# Altium footprint library PultRE_8C.PcbLib: 9 footprints
Each footprint in its own frame and in the unit in brackets; x right, y up, seen from the top. Pads: shape width x height; smd on the part's side, far side on the other; paste and mask are expansions set on the pad; w line width, h text height; cw(c..) or ccw(c..) is an arc to the next point about the centre after c.
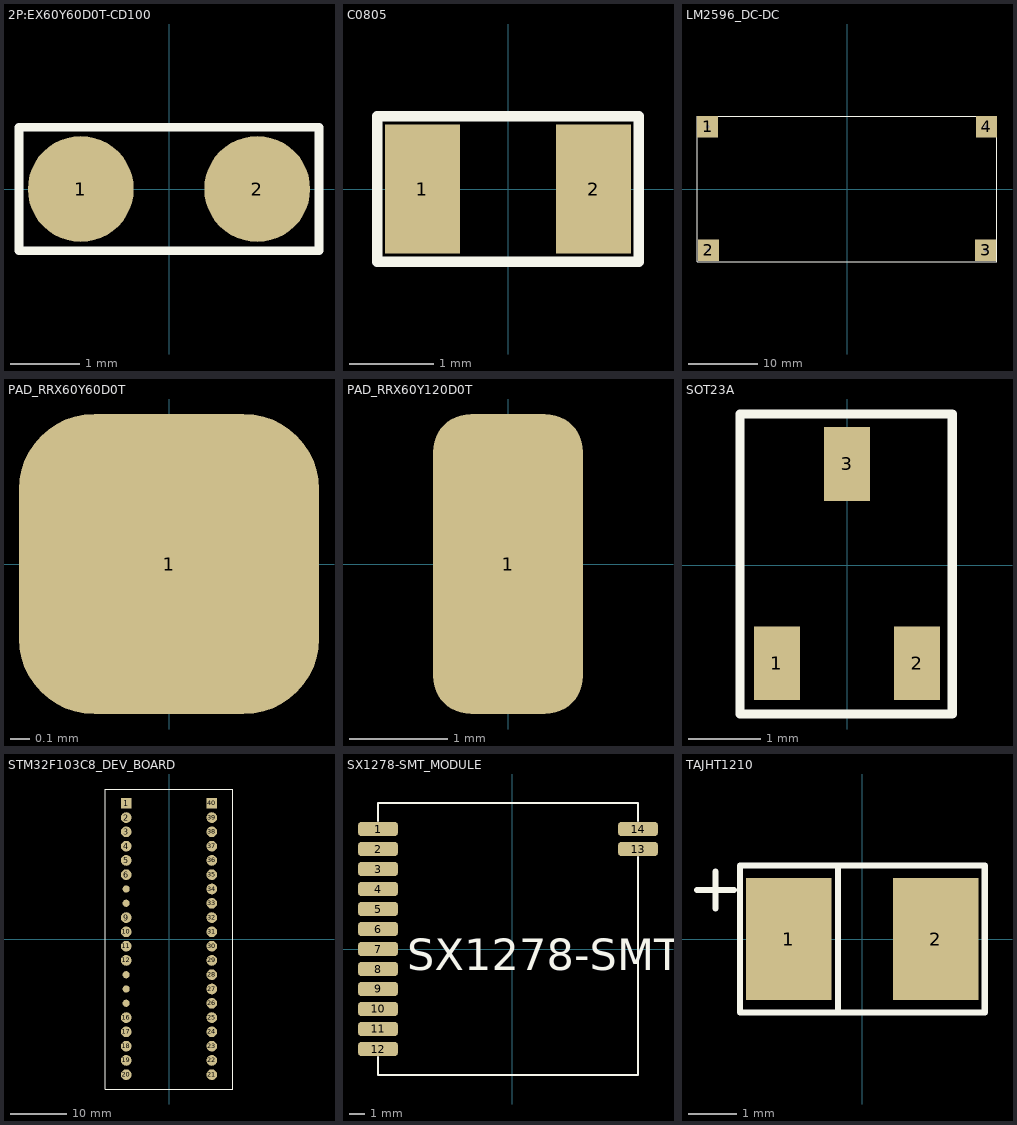
[diagram p0: the footprints below, top view; thin cyan lines are the x and y axes]

## 2P:EX60Y60D0T-CD100 [mil]
pads (2):
  round 60 smd: 1(-50,0) 2(50,0)
Top Overlay:
  lines w5: -85,-35 85,-35 85,35 -85,35 -85,-35

## C0805 [mil]
pads (2):
  rect 35x60 smd: 1(-40,0) 2(40,0)
Top Overlay:
  lines w5: -61,-34 61,-34 61,34 -61,34 -61,-33

## LM2596_DC-DC [mil]
pads (4):
  rect 120x120 hole 19.68: 1(-790,355) 2(-785,-345) 3(785,-345) 4(790,355)
Top Overlay:
  lines w5: -850,-410 -850,415 850,415 850,-410 -850,-410

## PAD_RRX60Y60D0T [mil]
pads (1):
  rrect50% 60x60 smd: 1(0,0)

## PAD_RRX60Y120D0T [mil]
pads (1):
  rrect50% 60x120 smd: 1(0,0)

## SOT23A [mil]
pads (3):
  rect 25x40 smd: 1(-38,-53) 2(38,-53) 3(0,55)
Top Overlay:
  lines w5: -58,-80.5 57,-80.5 57,82 -58,82 -58,-80.5

## STM32F103C8_DEV_BOARD [mil]
pads (40):
  rect 75x75 smd: 1(-300,950) 40(300,950)
  round 75 smd: 2(-300,850) 3(-300,750) 4(-300,650) 5(-300,550) 6(-300,450) 9(-300,150) 10(-300,50) 11(-300,-50) 12(-300,-150) 16(-300,-550) 17(-300,-650) 18(-300,-750) 19(-300,-850) 20(-300,-950) 21(300,-950) 22(300,-850) 23(300,-750) 24(300,-650) 25(300,-550) 26(300,-450) 27(300,-350) 28(300,-250) 29(300,-150) 30(300,-50) 31(300,50) 32(300,150) 33(300,250) 34(300,350) 35(300,450) 36(300,550) 37(300,650) 38(300,750) 39(300,850)
  round 50 smd: 7(-300,350) 8(-300,250) 13(-300,-250) 14(-300,-350) 15(-300,-450)
Top Overlay:
  lines w5: -445,-1050 -445,1050 445,1050 445,-1050 -445,-1050

## SX1278-SMT_MODULE [mil]
pads (14):
  rrect50% 100x36 smd: 1(-335,300) 2(-335,250) 3(-335,200) 4(-335,150) 5(-335,100) 6(-335,50) 7(-335,0) 8(-335,-50) 9(-335,-100) 10(-335,-150) 11(-335,-200) 12(-335,-250) 13(315,250) 14(315,300)
Top Overlay:
  lines w5: -335,-270 -335,-315 315,-315 315,230 ; -335,320 -335,365 315,365 315,320
  text "SX1278-SMT" at -261.87,-52.71 h78.12

## TAJHT1210 [mil]
pads (2):
  rect 70x100 smd: 1(-60,0) 2(60,0)
Top Overlay:
  lines w5: -135,40 -105,40 ; -120,25 -120,55 ; -20,-60 -20,60 ; -100,-60 -100,60 100,60 100,-60 -100,-60